# EAGLE library part A4988_STEP (library A4988)
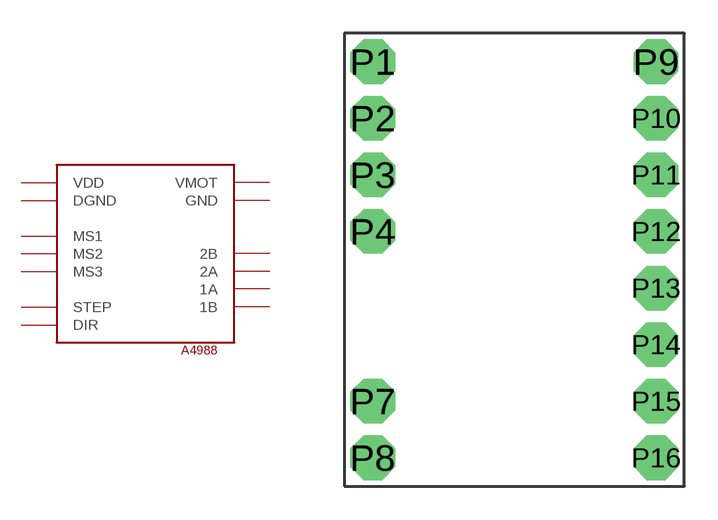
[diagram p2: symbol with the pads of A4988_STEP; footprint A4988_STEP]

Designator prefix U

## A4988_STEP  [A4988_STEP]
P2  MS1
P3  MS2
P4  MS3
P7  STEP
P8  DIR
P9  VMOT
P10  GND
P11  2B
P12  2A
P13  1A
P14  1B
P15  VDD
P16  DGND

## Footprint A4988_STEP (pad centres in mm)
drill 1 pad 2 octagon: P1 -6.35,8.89; P2 -6.35,6.35; P3 -6.35,3.81; P4 -6.35,1.27; P7 -6.35,-6.35; P8 -6.35,-8.89; P9 6.35,8.89; P10 6.35,6.35; P11 6.35,3.81; P12 6.35,1.27; P13 6.35,-1.27; P14 6.35,-3.81; P15 6.35,-6.35; P16 6.35,-8.89